# Altium integrated library Linear Technology Power Management PMIC Multifunction.IntLib: 360 symbols (part 31 of 42)
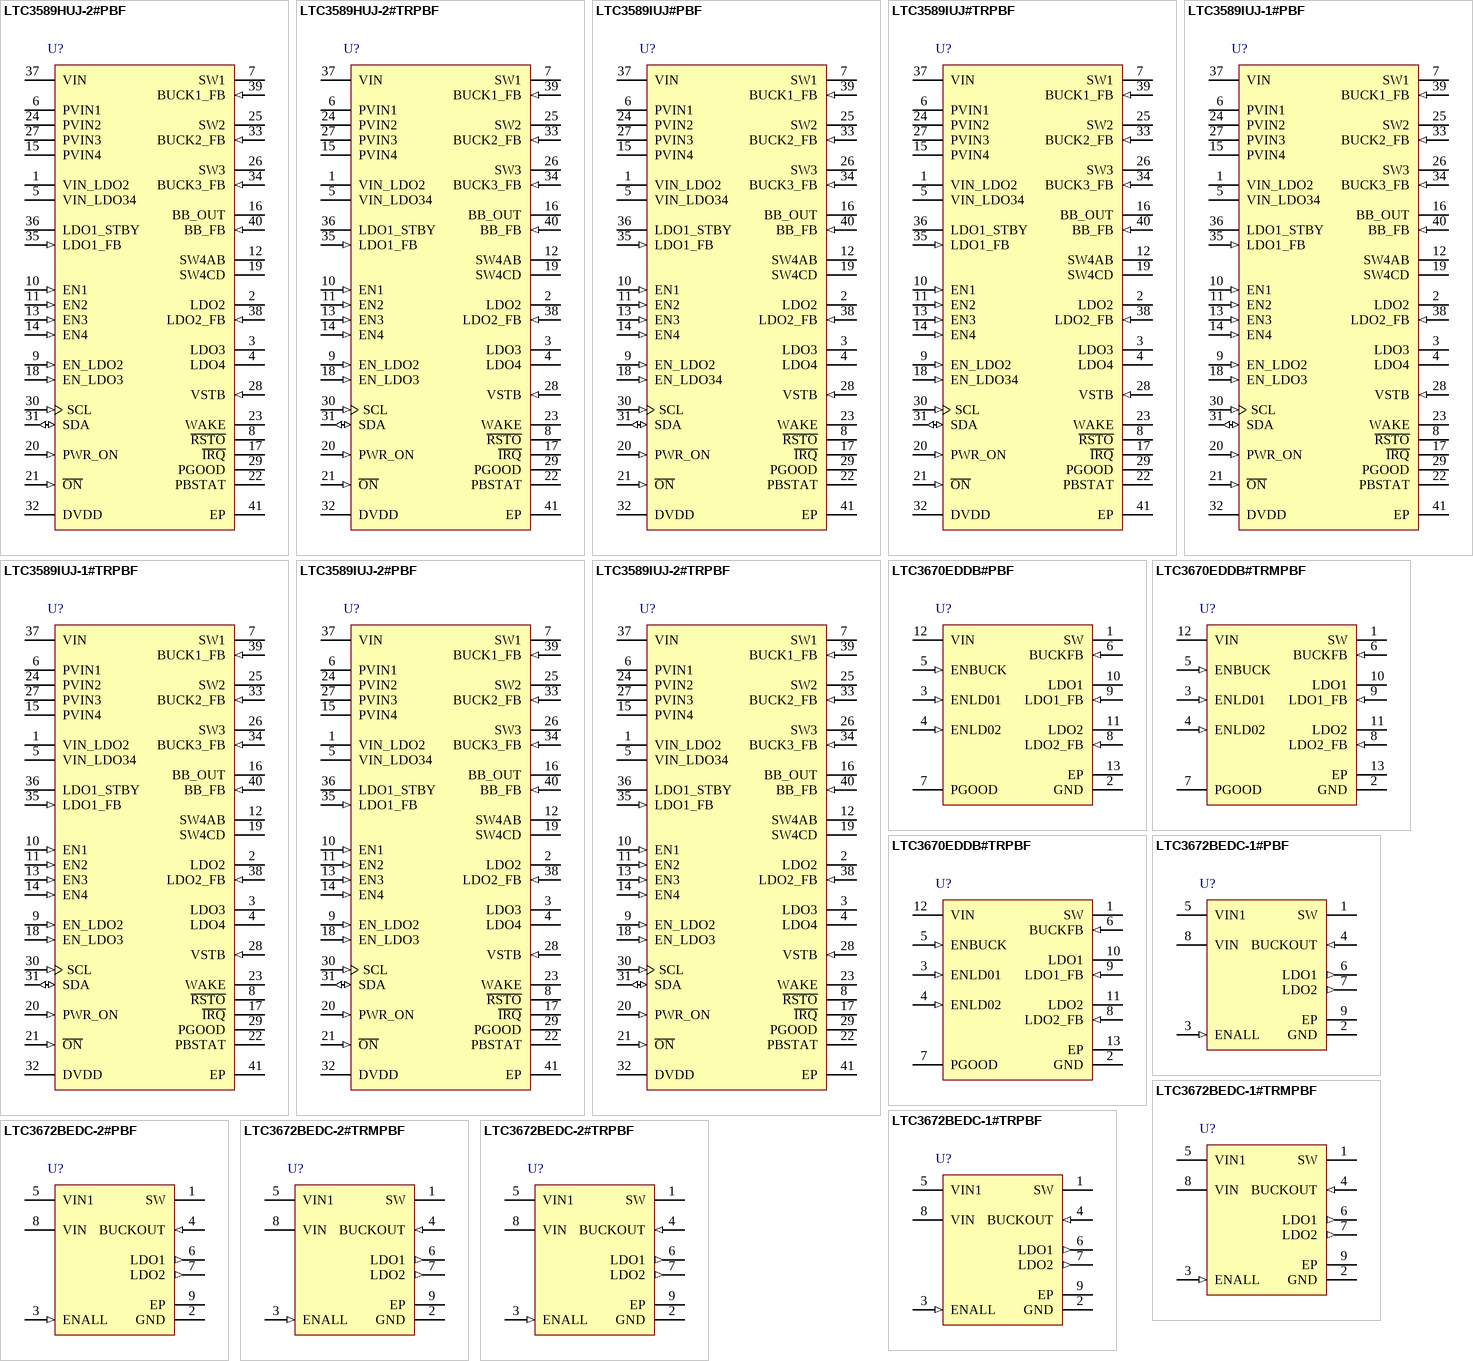
[diagram p48: symbols LTC3589HUJ-2#PBF to LTC3672BEDC-2#TRPBF]

## LTC3589IUJ-1#PBF
designator U?
8-Output Regulator with Sequencing and I2C, 2.7 to 5.5 V Vin, 40-pin QFN (UJ-40), -40 to 125 degC, Pb-Free; Manufacturer: Linear Technology; PartNumber: LTC3589IUJ-1#PBF; Number of Outputs: 8; Vin Max(V): 5.5; Vin Min(V): 2.7; DatasheetVersion: Rev. F; PackageVersion: Rev. Ø, 06/2010; PackageReference: UJ-40; PackageDescription: 40-Pin Plastic QFN, Body 6 x 6 mm, Pitch 0.5 mm; Supplier 1: Digi-Key; Supplier Part Number 1: LTC3589IUJ-1#PBF-ND; Supplier 2: Newark; Supplier Part Number 2: 59T5597; RoHS: TRUE; Mounting Technology: Surface Mount; ComponentLink1Description: Manufacturer URL; ComponentLink1URL: http://www.linear.com/; ComponentLink2Description: Datasheet; ComponentLink2URL: http://cds.linear.com/docs/en/datasheet/3589ff.pdf; ComponentLink3Description: Package Specification; ComponentLink3URL: http://cds.linear.com/docs/en/packaging/QFN_40_05-08-1728.pdf
footprint LT-UJ-40_N (QFN, 40-Leads, Body 6.1x6.1mm, Pitch 0.5mm, Thermal Pad 4.42x4.42mm, IPC Medium Density)
footprint LT-UJ-40_L (QFN, 40-Leads, Body 6.1x6.1mm, Pitch 0.5mm, Thermal Pad 4.42x4.42mm, IPC High Density)
footprint LT-UJ-40_M (QFN, 40-Leads, Body 6.1x6.1mm, Pitch 0.5mm, Thermal Pad 4.42x4.42mm, IPC Low Density)
pins: 1 VIN_LDO2 (power) "Power Input for LDO2. This pin should be bypassed to ground with a 1uF or greater ceramic capacitor", 2 LDO2 (power) "Output Voltage of LDO2. Nominal output voltage is set with a resistor feedback divider that servos to an I2C register controlled DAC reference. This pin must be bypassed to ground with a 1uF or greater ceramic capacitor", 3 LDO3 (power) "Output Voltage of LDO3. Nominal output voltage is fixed at 1.8V or 2.8V (LTC3589-1/LTC3589-2). This pin must be bypassed to ground with a 1uF or greater ceramic capacitor.", 4 LDO4 (power) "Output Voltage of LDO4. Output voltage is selected via the I2C port. This pin must be bypassed to ground with a 1uF or greater ceramic capacitor.", 5 VIN_LDO34 (power) "Power Input for LDO3 and LDO4. This pin should be bypassed to ground with a 1uF or greater ceramic capacitor.", 6 PVIN1 (power) "Power Input for Step-Down Switching Regulator 1. Tie this pin to VIN supply. This pin should be bypassed to ground with a 4.7uF or greater ceramic capacitor.", 7 SW1 (power) "Switch Pin for Step-Down Switching Regulator 1. Connect one side of step-down switching regulator 1 inductor to this pin.", 8 ~{RSTO} (oc) "Reset Output. Open-drain output pulls low when the always-on regulator LDO1 is below regulation and during a hard reset initiated by a pushbutton input.", 9 EN_LDO2 (in) "Enable LDO2 Logic Input. Active high input to enable LDO2. A weak pull-down forces EN_LDO2 low when left floating.", 10 EN1 (in) "Enable Step-Down Switching Regulator 1. Active high input to enable step-down switching regulator 1. A weak pull-down forces EN1 low when left floating.", 11 EN2 (in) "Enable Step-Down Switching Regulator 2. Active high input to enable step-down switching regulator 2. A weak pull-down forces EN2 low when left floating.", 12 SW4AB "Switch Pin for Buck-Boost Switching Regulator 4. Connected to the buck-boost internal power switches A and B. Connect an inductor between this pin and SW4CD (Pin 19).", 13 EN3 (in) "Enable Step-Down Switching Regulator 3. Active high input to enable step-down switching regulator 3. A weak pull-down forces EN3 low when left floating.", 14 EN4 (in) "Enable Buck-Boost Switching Regulator 4. Active high input to enable buck-boost switching regulator 4. A weak pull-down forces EN4 low when left floating.", 15 PVIN4 (power) "Power Input for Switching Regulator 4. Tie this pin to VIN supply. This pin should be bypassed to ground with a 4.7uF or greater ceramic capacitor.", 16 BB_OUT (power) "Output Voltage of Buck-Boost Switching Regulator 4. This pin must be bypassed to ground with a 22uF or greater ceramic capacitor.", 17 ~{IRQ} (oc) "Interrupt Request Output. Open-drain driver is pulled low for power good, undervoltage, and overtemperature warning and fault conditions. Clear I\R\Q\ by writing to the I2C CLIRQ command register", 18 EN_LDO3 (in) "LTC3589-1 Enable LDO3 Logic Input. Active high to enable LDO3. A weak pull-down forces EN_LDO3 low when left floating.", 19 SW4CD "Switch Pin for Buck-Boost Switching Regulator 4. Connected to the buck-boost internal power switches C and D. Connect an inductor between this node and SW4AB (Pin 12).", 20 PWR_ON (in) "External Power-On. Handshaking pin to acknowledge successful power-on sequence. PWR_ON must be driven high within five seconds of WAKE going high to keep power on. It can be used to activate the WAKE output by driving high. (See Datasheet)", 21 ~{ON} (in) "Pushbutton Input. A weak internal pull-up forces O\N\ high when left floating. A normally open pushbutton is connected from O\N\ to ground to force a low state on this pin.", 22 PBSTAT (oc) "Pushbutton Status. Open-drain output to be used for processor interrupts. PBSTAT mirrors the status of O\N\ pushbutton pin. PBSTAT is delayed 50ms from O\N\ pin for debounce.", 23 WAKE (oc) "System Wake Up. Open-drain driver output releases high when signaled by pushbutton activation or PWR_ON input. It may be used to initiate a pin-strapped power-up sequence by connecting to a regulator enable pin.", 24 PVIN2 (power) "Power Input for Step-Down Switching Regulator 2. Tie this pin to VIN supply. This pin should be bypassed to ground with a 4.7uF or greater ceramic capacitor.", 25 SW2 (power) "Switch Pin for Step-Down Switching Regulator 2. Connect one side of step-down switching regulator 2 inductor to this pin.", 26 SW3 (power) "Switch Pin for Step-Down Switching Regulator 3. Connect one side of step-down switching regulator 3 inductor to this pin.", 27 PVIN3 (power) "Power Input for Step-Down Switching Regulator 3. Tie this pin to the VIN supply. This pin should be bypassed to ground with a 4.7uF or greater ceramic capacitor.", 28 VSTB (in) "Voltage Standby. When VSTB is low, DAC reference registers are selected by bit values in command register VCCR. When VSTB is high, the DAC registers are forced xxDVT2 registers. Tie VSTB to ground if unused.", 29 PGOOD (oc) "Power Good Output. Open-drain output pulls down when any regulator falls below power good threshold and during regulator dynamic voltage slew unless disabled in I2C register. Pulls down when all regulators are disabled.", 30 SCL (in) "Clock Input Pin for the I2C Serial Port. The I2C logic levels are scaled with respect to DVDD.", 31 SDA (io) "Data Input Pin for the I2C Serial Port. The I2C logic levels are scaled with respect to DVDD.", 32 DVDD (power) "Supply Voltage for I2C Serial Port. This pin sets the logic reference level of SCL and SDA I2C pins. DVDD resets I2C registers to power on state when driven to <1V. SCL and SDA logic levels are scaled to DVDD. Connect a 0.(See Datasheet)", 33 BUCK2_FB (in) "Feedback Input for Step-Down Switching Regulator 2. Set full-scale output voltage using resistor divider connected from the output of step-down switching regulator 2 to this pin to ground.", 34 BUCK3_FB (in) "Feedback Input for Step-Down Switching Regulator 3. Set full-scale output voltage using resistor divider connected from the output of step-down switching regulator 3 to this pin to ground.", 35 LDO1_FB (in) "Feedback Input for LDO1. Set output voltage using a resistor divider connected from LDO1_STDBY to this pin to ground.", 36 LDO1_STBY (power) "Always-On LDO1 Output. This pin provides an always-on supply voltage useful for light loads such as a watchdog microprocessor or a real-time clock. Connect a 1uF capacitor from LDO1_STBY to ground.", 37 VIN (power) "Supply Voltage Input. This pin should be bypassed to ground with a 1uF or greater ceramic capacitor.", 38 LDO2_FB (in) "Feedback Input for LDO2. Set full-scale output voltage using a resistor divider connected from LDO2_OUT to this pin to ground.", 39 BUCK1_FB (in) "Feedback Input for Step-Down", 40 BB_FB (in) "Feedback Input for Buck-Boost Switching Regulator 4. Set the output voltage using resistor divider connected from BB_OUT to this pin to ground.", 41 EP (power) "Ground. The Exposed Pad must be connected to a continuous ground plane on the second layer of the printed circuit board by several interconnect vias directly under the LTC3589 for maximum heat transfer."

## LTC3589IUJ-1#TRPBF
designator U?
8-Output Regulator with Sequencing and I2C, 2.7 to 5.5 V Vin, 40-pin QFN (UJ-40), -40 to 125 degC, Pb-Free, Tape and Reel; Manufacturer: Linear Technology; PartNumber: LTC3589IUJ-1#TRPBF; Number of Outputs: 8; Vin Max(V): 5.5; Vin Min(V): 2.7; DatasheetVersion: Rev. F; PackageVersion: Rev. Ø, 06/2010; PackageReference: UJ-40; PackageDescription: 40-Pin Plastic QFN, Body 6 x 6 mm, Pitch 0.5 mm; Supplier 1: Digi-Key; Supplier Part Number 1: LTC3589IUJ-1#TRPBF-ND; Packing: Tape and Reel; RoHS: TRUE; Mounting Technology: Surface Mount; ComponentLink1Description: Manufacturer URL; ComponentLink1URL: http://www.linear.com/; ComponentLink2Description: Datasheet; ComponentLink2URL: http://cds.linear.com/docs/en/datasheet/3589ff.pdf; ComponentLink3Description: Package Specification; ComponentLink3URL: http://cds.linear.com/docs/en/packaging/QFN_40_05-08-1728.pdf
footprint LT-UJ-40_N (QFN, 40-Leads, Body 6.1x6.1mm, Pitch 0.5mm, Thermal Pad 4.42x4.42mm, IPC Medium Density)
footprint LT-UJ-40_L (QFN, 40-Leads, Body 6.1x6.1mm, Pitch 0.5mm, Thermal Pad 4.42x4.42mm, IPC High Density)
footprint LT-UJ-40_M (QFN, 40-Leads, Body 6.1x6.1mm, Pitch 0.5mm, Thermal Pad 4.42x4.42mm, IPC Low Density)
pins: 1 VIN_LDO2 (power) "Power Input for LDO2. This pin should be bypassed to ground with a 1uF or greater ceramic capacitor", 2 LDO2 (power) "Output Voltage of LDO2. Nominal output voltage is set with a resistor feedback divider that servos to an I2C register controlled DAC reference. This pin must be bypassed to ground with a 1uF or greater ceramic capacitor", 3 LDO3 (power) "Output Voltage of LDO3. Nominal output voltage is fixed at 1.8V or 2.8V (LTC3589-1/LTC3589-2). This pin must be bypassed to ground with a 1uF or greater ceramic capacitor.", 4 LDO4 (power) "Output Voltage of LDO4. Output voltage is selected via the I2C port. This pin must be bypassed to ground with a 1uF or greater ceramic capacitor.", 5 VIN_LDO34 (power) "Power Input for LDO3 and LDO4. This pin should be bypassed to ground with a 1uF or greater ceramic capacitor.", 6 PVIN1 (power) "Power Input for Step-Down Switching Regulator 1. Tie this pin to VIN supply. This pin should be bypassed to ground with a 4.7uF or greater ceramic capacitor.", 7 SW1 (power) "Switch Pin for Step-Down Switching Regulator 1. Connect one side of step-down switching regulator 1 inductor to this pin.", 8 ~{RSTO} (oc) "Reset Output. Open-drain output pulls low when the always-on regulator LDO1 is below regulation and during a hard reset initiated by a pushbutton input.", 9 EN_LDO2 (in) "Enable LDO2 Logic Input. Active high input to enable LDO2. A weak pull-down forces EN_LDO2 low when left floating.", 10 EN1 (in) "Enable Step-Down Switching Regulator 1. Active high input to enable step-down switching regulator 1. A weak pull-down forces EN1 low when left floating.", 11 EN2 (in) "Enable Step-Down Switching Regulator 2. Active high input to enable step-down switching regulator 2. A weak pull-down forces EN2 low when left floating.", 12 SW4AB "Switch Pin for Buck-Boost Switching Regulator 4. Connected to the buck-boost internal power switches A and B. Connect an inductor between this pin and SW4CD (Pin 19).", 13 EN3 (in) "Enable Step-Down Switching Regulator 3. Active high input to enable step-down switching regulator 3. A weak pull-down forces EN3 low when left floating.", 14 EN4 (in) "Enable Buck-Boost Switching Regulator 4. Active high input to enable buck-boost switching regulator 4. A weak pull-down forces EN4 low when left floating.", 15 PVIN4 (power) "Power Input for Switching Regulator 4. Tie this pin to VIN supply. This pin should be bypassed to ground with a 4.7uF or greater ceramic capacitor.", 16 BB_OUT (power) "Output Voltage of Buck-Boost Switching Regulator 4. This pin must be bypassed to ground with a 22uF or greater ceramic capacitor.", 17 ~{IRQ} (oc) "Interrupt Request Output. Open-drain driver is pulled low for power good, undervoltage, and overtemperature warning and fault conditions. Clear I\R\Q\ by writing to the I2C CLIRQ command register", 18 EN_LDO3 (in) "LTC3589-1 Enable LDO3 Logic Input. Active high to enable LDO3. A weak pull-down forces EN_LDO3 low when left floating.", 19 SW4CD "Switch Pin for Buck-Boost Switching Regulator 4. Connected to the buck-boost internal power switches C and D. Connect an inductor between this node and SW4AB (Pin 12).", 20 PWR_ON (in) "External Power-On. Handshaking pin to acknowledge successful power-on sequence. PWR_ON must be driven high within five seconds of WAKE going high to keep power on. It can be used to activate the WAKE output by driving high. (See Datasheet)", 21 ~{ON} (in) "Pushbutton Input. A weak internal pull-up forces O\N\ high when left floating. A normally open pushbutton is connected from O\N\ to ground to force a low state on this pin.", 22 PBSTAT (oc) "Pushbutton Status. Open-drain output to be used for processor interrupts. PBSTAT mirrors the status of O\N\ pushbutton pin. PBSTAT is delayed 50ms from O\N\ pin for debounce.", 23 WAKE (oc) "System Wake Up. Open-drain driver output releases high when signaled by pushbutton activation or PWR_ON input. It may be used to initiate a pin-strapped power-up sequence by connecting to a regulator enable pin.", 24 PVIN2 (power) "Power Input for Step-Down Switching Regulator 2. Tie this pin to VIN supply. This pin should be bypassed to ground with a 4.7uF or greater ceramic capacitor.", 25 SW2 (power) "Switch Pin for Step-Down Switching Regulator 2. Connect one side of step-down switching regulator 2 inductor to this pin.", 26 SW3 (power) "Switch Pin for Step-Down Switching Regulator 3. Connect one side of step-down switching regulator 3 inductor to this pin.", 27 PVIN3 (power) "Power Input for Step-Down Switching Regulator 3. Tie this pin to the VIN supply. This pin should be bypassed to ground with a 4.7uF or greater ceramic capacitor.", 28 VSTB (in) "Voltage Standby. When VSTB is low, DAC reference registers are selected by bit values in command register VCCR. When VSTB is high, the DAC registers are forced xxDVT2 registers. Tie VSTB to ground if unused.", 29 PGOOD (oc) "Power Good Output. Open-drain output pulls down when any regulator falls below power good threshold and during regulator dynamic voltage slew unless disabled in I2C register. Pulls down when all regulators are disabled.", 30 SCL (in) "Clock Input Pin for the I2C Serial Port. The I2C logic levels are scaled with respect to DVDD.", 31 SDA (io) "Data Input Pin for the I2C Serial Port. The I2C logic levels are scaled with respect to DVDD.", 32 DVDD (power) "Supply Voltage for I2C Serial Port. This pin sets the logic reference level of SCL and SDA I2C pins. DVDD resets I2C registers to power on state when driven to <1V. SCL and SDA logic levels are scaled to DVDD. Connect a 0.(See Datasheet)", 33 BUCK2_FB (in) "Feedback Input for Step-Down Switching Regulator 2. Set full-scale output voltage using resistor divider connected from the output of step-down switching regulator 2 to this pin to ground.", 34 BUCK3_FB (in) "Feedback Input for Step-Down Switching Regulator 3. Set full-scale output voltage using resistor divider connected from the output of step-down switching regulator 3 to this pin to ground.", 35 LDO1_FB (in) "Feedback Input for LDO1. Set output voltage using a resistor divider connected from LDO1_STDBY to this pin to ground.", 36 LDO1_STBY (power) "Always-On LDO1 Output. This pin provides an always-on supply voltage useful for light loads such as a watchdog microprocessor or a real-time clock. Connect a 1uF capacitor from LDO1_STBY to ground.", 37 VIN (power) "Supply Voltage Input. This pin should be bypassed to ground with a 1uF or greater ceramic capacitor.", 38 LDO2_FB (in) "Feedback Input for LDO2. Set full-scale output voltage using a resistor divider connected from LDO2_OUT to this pin to ground.", 39 BUCK1_FB (in) "Feedback Input for Step-Down", 40 BB_FB (in) "Feedback Input for Buck-Boost Switching Regulator 4. Set the output voltage using resistor divider connected from BB_OUT to this pin to ground.", 41 EP (power) "Ground. The Exposed Pad must be connected to a continuous ground plane on the second layer of the printed circuit board by several interconnect vias directly under the LTC3589 for maximum heat transfer."

## LTC3589IUJ-2#PBF
designator U?
8-Output Regulator with Sequencing and I2C, 2.7 to 5.5 V Vin, 40-pin QFN (UJ-40), -40 to 125 degC, Pb-Free; Manufacturer: Linear Technology; PartNumber: LTC3589IUJ-2#PBF; Number of Outputs: 8; Vin Max(V): 5.5; Vin Min(V): 2.7; DatasheetVersion: Rev. F; PackageVersion: Rev. Ø, 06/2010; PackageReference: UJ-40; PackageDescription: 40-Pin Plastic QFN, Body 6 x 6 mm, Pitch 0.5 mm; Supplier 1: Digi-Key; Supplier Part Number 1: LTC3589IUJ-2#PBF-ND; Supplier 2: Newark; Supplier Part Number 2: 94T1263; RoHS: TRUE; Mounting Technology: Surface Mount; ComponentLink1Description: Manufacturer URL; ComponentLink1URL: http://www.linear.com/; ComponentLink2Description: Datasheet; ComponentLink2URL: http://cds.linear.com/docs/en/datasheet/3589ff.pdf; ComponentLink3Description: Package Specification; ComponentLink3URL: http://cds.linear.com/docs/en/packaging/QFN_40_05-08-1728.pdf
footprint LT-UJ-40_N (QFN, 40-Leads, Body 6.1x6.1mm, Pitch 0.5mm, Thermal Pad 4.42x4.42mm, IPC Medium Density)
footprint LT-UJ-40_L (QFN, 40-Leads, Body 6.1x6.1mm, Pitch 0.5mm, Thermal Pad 4.42x4.42mm, IPC High Density)
footprint LT-UJ-40_M (QFN, 40-Leads, Body 6.1x6.1mm, Pitch 0.5mm, Thermal Pad 4.42x4.42mm, IPC Low Density)
pins: 1 VIN_LDO2 (power) "Power Input for LDO2. This pin should be bypassed to ground with a 1uF or greater ceramic capacitor", 2 LDO2 (power) "Output Voltage of LDO2. Nominal output voltage is set with a resistor feedback divider that servos to an I2C register controlled DAC reference. This pin must be bypassed to ground with a 1uF or greater ceramic capacitor", 3 LDO3 (power) "Output Voltage of LDO3. Nominal output voltage is fixed at 1.8V or 2.8V (LTC3589-1/LTC3589-2). This pin must be bypassed to ground with a 1uF or greater ceramic capacitor.", 4 LDO4 (power) "Output Voltage of LDO4. Output voltage is selected via the I2C port. This pin must be bypassed to ground with a 1uF or greater ceramic capacitor.", 5 VIN_LDO34 (power) "Power Input for LDO3 and LDO4. This pin should be bypassed to ground with a 1uF or greater ceramic capacitor.", 6 PVIN1 (power) "Power Input for Step-Down Switching Regulator 1. Tie this pin to VIN supply. This pin should be bypassed to ground with a 4.7uF or greater ceramic capacitor.", 7 SW1 (power) "Switch Pin for Step-Down Switching Regulator 1. Connect one side of step-down switching regulator 1 inductor to this pin.", 8 ~{RSTO} (oc) "Reset Output. Open-drain output pulls low when the always-on regulator LDO1 is below regulation and during a hard reset initiated by a pushbutton input.", 9 EN_LDO2 (in) "Enable LDO2 Logic Input. Active high input to enable LDO2. A weak pull-down forces EN_LDO2 low when left floating.", 10 EN1 (in) "Enable Step-Down Switching Regulator 1. Active high input to enable step-down switching regulator 1. A weak pull-down forces EN1 low when left floating.", 11 EN2 (in) "Enable Step-Down Switching Regulator 2. Active high input to enable step-down switching regulator 2. A weak pull-down forces EN2 low when left floating.", 12 SW4AB "Switch Pin for Buck-Boost Switching Regulator 4. Connected to the buck-boost internal power switches A and B. Connect an inductor between this pin and SW4CD (Pin 19).", 13 EN3 (in) "Enable Step-Down Switching Regulator 3. Active high input to enable step-down switching regulator 3. A weak pull-down forces EN3 low when left floating.", 14 EN4 (in) "Enable Buck-Boost Switching Regulator 4. Active high input to enable buck-boost switching regulator 4. A weak pull-down forces EN4 low when left floating.", 15 PVIN4 (power) "Power Input for Switching Regulator 4. Tie this pin to VIN supply. This pin should be bypassed to ground with a 4.7uF or greater ceramic capacitor.", 16 BB_OUT (power) "Output Voltage of Buck-Boost Switching Regulator 4. This pin must be bypassed to ground with a 22uF or greater ceramic capacitor.", 17 ~{IRQ} (oc) "Interrupt Request Output. Open-drain driver is pulled low for power good, undervoltage, and overtemperature warning and fault conditions. Clear I\R\Q\ by writing to the I2C CLIRQ command register", 18 EN_LDO3 (in) "LTC3589-2 Enable LDO3 Logic Input. Active high to enable LDO3. A weak pull-down forces EN_LDO3 low when left floating.", 19 SW4CD "Switch Pin for Buck-Boost Switching Regulator 4. Connected to the buck-boost internal power switches C and D. Connect an inductor between this node and SW4AB (Pin 12).", 20 PWR_ON (in) "External Power-On. Handshaking pin to acknowledge successful power-on sequence. PWR_ON must be driven high within five seconds of WAKE going high to keep power on. It can be used to activate the WAKE output by driving high. (See Datasheet)", 21 ~{ON} (in) "Pushbutton Input. A weak internal pull-up forces O\N\ high when left floating. A normally open pushbutton is connected from O\N\ to ground to force a low state on this pin.", 22 PBSTAT (oc) "Pushbutton Status. Open-drain output to be used for processor interrupts. PBSTAT mirrors the status of O\N\ pushbutton pin. PBSTAT is delayed 50ms from O\N\ pin for debounce.", 23 WAKE (oc) "System Wake Up. Open-drain driver output releases high when signaled by pushbutton activation or PWR_ON input. It may be used to initiate a pin-strapped power-up sequence by connecting to a regulator enable pin.", 24 PVIN2 (power) "Power Input for Step-Down Switching Regulator 2. Tie this pin to VIN supply. This pin should be bypassed to ground with a 4.7uF or greater ceramic capacitor.", 25 SW2 (power) "Switch Pin for Step-Down Switching Regulator 2. Connect one side of step-down switching regulator 2 inductor to this pin.", 26 SW3 (power) "Switch Pin for Step-Down Switching Regulator 3. Connect one side of step-down switching regulator 3 inductor to this pin.", 27 PVIN3 (power) "Power Input for Step-Down Switching Regulator 3. Tie this pin to the VIN supply. This pin should be bypassed to ground with a 4.7uF or greater ceramic capacitor.", 28 VSTB (in) "Voltage Standby. When VSTB is low, DAC reference registers are selected by bit values in command register VCCR. When VSTB is high, the DAC registers are forced xxDVT2 registers. Tie VSTB to ground if unused.", 29 PGOOD (oc) "Power Good Output. Open-drain output pulls down when any regulator falls below power good threshold and during regulator dynamic voltage slew unless disabled in I2C register. Pulls down when all regulators are disabled.", 30 SCL (in) "Clock Input Pin for the I2C Serial Port. The I2C logic levels are scaled with respect to DVDD.", 31 SDA (io) "Data Input Pin for the I2C Serial Port. The I2C logic levels are scaled with respect to DVDD.", 32 DVDD (power) "Supply Voltage for I2C Serial Port. This pin sets the logic reference level of SCL and SDA I2C pins. DVDD resets I2C registers to power on state when driven to <1V. SCL and SDA logic levels are scaled to DVDD. Connect a 0.(See Datasheet)", 33 BUCK2_FB (in) "Feedback Input for Step-Down Switching Regulator 2. Set full-scale output voltage using resistor divider connected from the output of step-down switching regulator 2 to this pin to ground.", 34 BUCK3_FB (in) "Feedback Input for Step-Down Switching Regulator 3. Set full-scale output voltage using resistor divider connected from the output of step-down switching regulator 3 to this pin to ground.", 35 LDO1_FB (in) "Feedback Input for LDO1. Set output voltage using a resistor divider connected from LDO1_STDBY to this pin to ground.", 36 LDO1_STBY (power) "Always-On LDO1 Output. This pin provides an always-on supply voltage useful for light loads such as a watchdog microprocessor or a real-time clock. Connect a 1uF capacitor from LDO1_STBY to ground.", 37 VIN (power) "Supply Voltage Input. This pin should be bypassed to ground with a 1uF or greater ceramic capacitor.", 38 LDO2_FB (in) "Feedback Input for LDO2. Set full-scale output voltage using a resistor divider connected from LDO2_OUT to this pin to ground.", 39 BUCK1_FB (in) "Feedback Input for Step-Down Switching Regulator 1. Set full-scale output voltage using resistor divider connected from the output of step-down switching regulator 1 to this pin to ground.", 40 BB_FB (in) "Feedback Input for Buck-Boost Switching Regulator 4. Set the output voltage using resistor divider connected from BB_OUT to this pin to ground.", 41 EP (power) "Ground. The Exposed Pad must be connected to a continuous ground plane on the second layer of the printed circuit board by several interconnect vias directly under the LTC3589 for maximum heat transfer."

## LTC3589IUJ-2#TRPBF
designator U?
8-Output Regulator with Sequencing and I2C, 2.7 to 5.5 V Vin, 40-pin QFN (UJ-40), -40 to 125 degC, Pb-Free, Tape and Reel; Manufacturer: Linear Technology; PartNumber: LTC3589IUJ-2#TRPBF; Number of Outputs: 8; Vin Max(V): 5.5; Vin Min(V): 2.7; DatasheetVersion: Rev. F; PackageVersion: Rev. Ø, 06/2010; PackageReference: UJ-40; PackageDescription: 40-Pin Plastic QFN, Body 6 x 6 mm, Pitch 0.5 mm; Supplier 1: Digi-Key; Supplier Part Number 1: LTC3589IUJ-2#TRPBF-ND; Supplier 2: Newark; Supplier Part Number 2: 94T1264; Packing: Tape and Reel; RoHS: TRUE; Mounting Technology: Surface Mount; ComponentLink1Description: Manufacturer URL; ComponentLink1URL: http://www.linear.com/; ComponentLink2Description: Datasheet; ComponentLink2URL: http://cds.linear.com/docs/en/datasheet/3589ff.pdf; ComponentLink3Description: Package Specification; ComponentLink3URL: http://cds.linear.com/docs/en/packaging/QFN_40_05-08-1728.pdf
footprint LT-UJ-40_N (QFN, 40-Leads, Body 6.1x6.1mm, Pitch 0.5mm, Thermal Pad 4.42x4.42mm, IPC Medium Density)
footprint LT-UJ-40_L (QFN, 40-Leads, Body 6.1x6.1mm, Pitch 0.5mm, Thermal Pad 4.42x4.42mm, IPC High Density)
footprint LT-UJ-40_M (QFN, 40-Leads, Body 6.1x6.1mm, Pitch 0.5mm, Thermal Pad 4.42x4.42mm, IPC Low Density)
pins: 1 VIN_LDO2 (power) "Power Input for LDO2. This pin should be bypassed to ground with a 1uF or greater ceramic capacitor", 2 LDO2 (power) "Output Voltage of LDO2. Nominal output voltage is set with a resistor feedback divider that servos to an I2C register controlled DAC reference. This pin must be bypassed to ground with a 1uF or greater ceramic capacitor", 3 LDO3 (power) "Output Voltage of LDO3. Nominal output voltage is fixed at 1.8V or 2.8V (LTC3589-1/LTC3589-2). This pin must be bypassed to ground with a 1uF or greater ceramic capacitor.", 4 LDO4 (power) "Output Voltage of LDO4. Output voltage is selected via the I2C port. This pin must be bypassed to ground with a 1uF or greater ceramic capacitor.", 5 VIN_LDO34 (power) "Power Input for LDO3 and LDO4. This pin should be bypassed to ground with a 1uF or greater ceramic capacitor.", 6 PVIN1 (power) "Power Input for Step-Down Switching Regulator 1. Tie this pin to VIN supply. This pin should be bypassed to ground with a 4.7uF or greater ceramic capacitor.", 7 SW1 (power) "Switch Pin for Step-Down Switching Regulator 1. Connect one side of step-down switching regulator 1 inductor to this pin.", 8 ~{RSTO} (oc) "Reset Output. Open-drain output pulls low when the always-on regulator LDO1 is below regulation and during a hard reset initiated by a pushbutton input.", 9 EN_LDO2 (in) "Enable LDO2 Logic Input. Active high input to enable LDO2. A weak pull-down forces EN_LDO2 low when left floating.", 10 EN1 (in) "Enable Step-Down Switching Regulator 1. Active high input to enable step-down switching regulator 1. A weak pull-down forces EN1 low when left floating.", 11 EN2 (in) "Enable Step-Down Switching Regulator 2. Active high input to enable step-down switching regulator 2. A weak pull-down forces EN2 low when left floating.", 12 SW4AB "Switch Pin for Buck-Boost Switching Regulator 4. Connected to the buck-boost internal power switches A and B. Connect an inductor between this pin and SW4CD (Pin 19).", 13 EN3 (in) "Enable Step-Down Switching Regulator 3. Active high input to enable step-down switching regulator 3. A weak pull-down forces EN3 low when left floating.", 14 EN4 (in) "Enable Buck-Boost Switching Regulator 4. Active high input to enable buck-boost switching regulator 4. A weak pull-down forces EN4 low when left floating.", 15 PVIN4 (power) "Power Input for Switching Regulator 4. Tie this pin to VIN supply. This pin should be bypassed to ground with a 4.7uF or greater ceramic capacitor.", 16 BB_OUT (power) "Output Voltage of Buck-Boost Switching Regulator 4. This pin must be bypassed to ground with a 22uF or greater ceramic capacitor.", 17 ~{IRQ} (oc) "Interrupt Request Output. Open-drain driver is pulled low for power good, undervoltage, and overtemperature warning and fault conditions. Clear I\R\Q\ by writing to the I2C CLIRQ command register", 18 EN_LDO3 (in) "LTC3589-2 Enable LDO3 Logic Input. Active high to enable LDO3. A weak pull-down forces EN_LDO3 low when left floating.", 19 SW4CD "Switch Pin for Buck-Boost Switching Regulator 4. Connected to the buck-boost internal power switches C and D. Connect an inductor between this node and SW4AB (Pin 12).", 20 PWR_ON (in) "External Power-On. Handshaking pin to acknowledge successful power-on sequence. PWR_ON must be driven high within five seconds of WAKE going high to keep power on. It can be used to activate the WAKE output by driving high. (See Datasheet)", 21 ~{ON} (in) "Pushbutton Input. A weak internal pull-up forces O\N\ high when left floating. A normally open pushbutton is connected from O\N\ to ground to force a low state on this pin.", 22 PBSTAT (oc) "Pushbutton Status. Open-drain output to be used for processor interrupts. PBSTAT mirrors the status of O\N\ pushbutton pin. PBSTAT is delayed 50ms from O\N\ pin for debounce.", 23 WAKE (oc) "System Wake Up. Open-drain driver output releases high when signaled by pushbutton activation or PWR_ON input. It may be used to initiate a pin-strapped power-up sequence by connecting to a regulator enable pin.", 24 PVIN2 (power) "Power Input for Step-Down Switching Regulator 2. Tie this pin to VIN supply. This pin should be bypassed to ground with a 4.7uF or greater ceramic capacitor.", 25 SW2 (power) "Switch Pin for Step-Down Switching Regulator 2. Connect one side of step-down switching regulator 2 inductor to this pin.", 26 SW3 (power) "Switch Pin for Step-Down Switching Regulator 3. Connect one side of step-down switching regulator 3 inductor to this pin.", 27 PVIN3 (power) "Power Input for Step-Down Switching Regulator 3. Tie this pin to the VIN supply. This pin should be bypassed to ground with a 4.7uF or greater ceramic capacitor.", 28 VSTB (in) "Voltage Standby. When VSTB is low, DAC reference registers are selected by bit values in command register VCCR. When VSTB is high, the DAC registers are forced xxDVT2 registers. Tie VSTB to ground if unused.", 29 PGOOD (oc) "Power Good Output. Open-drain output pulls down when any regulator falls below power good threshold and during regulator dynamic voltage slew unless disabled in I2C register. Pulls down when all regulators are disabled.", 30 SCL (in) "Clock Input Pin for the I2C Serial Port. The I2C logic levels are scaled with respect to DVDD.", 31 SDA (io) "Data Input Pin for the I2C Serial Port. The I2C logic levels are scaled with respect to DVDD.", 32 DVDD (power) "Supply Voltage for I2C Serial Port. This pin sets the logic reference level of SCL and SDA I2C pins. DVDD resets I2C registers to power on state when driven to <1V. SCL and SDA logic levels are scaled to DVDD. Connect a 0.(See Datasheet)", 33 BUCK2_FB (in) "Feedback Input for Step-Down Switching Regulator 2. Set full-scale output voltage using resistor divider connected from the output of step-down switching regulator 2 to this pin to ground.", 34 BUCK3_FB (in) "Feedback Input for Step-Down Switching Regulator 3. Set full-scale output voltage using resistor divider connected from the output of step-down switching regulator 3 to this pin to ground.", 35 LDO1_FB (in) "Feedback Input for LDO1. Set output voltage using a resistor divider connected from LDO1_STDBY to this pin to ground.", 36 LDO1_STBY (power) "Always-On LDO1 Output. This pin provides an always-on supply voltage useful for light loads such as a watchdog microprocessor or a real-time clock. Connect a 1uF capacitor from LDO1_STBY to ground.", 37 VIN (power) "Supply Voltage Input. This pin should be bypassed to ground with a 1uF or greater ceramic capacitor.", 38 LDO2_FB (in) "Feedback Input for LDO2. Set full-scale output voltage using a resistor divider connected from LDO2_OUT to this pin to ground.", 39 BUCK1_FB (in) "Feedback Input for Step-Down Switching Regulator 1. Set full-scale output voltage using resistor divider connected from the output of step-down switching regulator 1 to this pin to ground.", 40 BB_FB (in) "Feedback Input for Buck-Boost Switching Regulator 4. Set the output voltage using resistor divider connected from BB_OUT to this pin to ground.", 41 EP (power) "Ground. The Exposed Pad must be connected to a continuous ground plane on the second layer of the printed circuit board by several interconnect vias directly under the LTC3589 for maximum heat transfer."

## LTC3670EDDB#PBF
designator U?
Monolithic 400 mA Buck Regulator with Dual 150 mA LDOs, 2.5 to 5.5 V Vin, 12-pin SON (DDB-12), -40 to 85 degC, Pb-Free; Manufacturer: Linear Technology; PartNumber: LTC3670EDDB#PBF; Number of Outputs: 3; Vin Max(V): 5.5; Vin Min(V): 2.5; PackageVersion: Rev. Ø, 06/2010; PackageReference: DDB-12; PackageDescription: 12-Pin Plastic DFN, Body 3 x 2 mm, Pitch 0.45 mm; RoHS: TRUE; Mounting Technology: Surface Mount; ComponentLink1Description: Manufacturer URL; ComponentLink1URL: http://www.linear.com/; ComponentLink2Description: Datasheet; ComponentLink2URL: http://cds.linear.com/docs/en/datasheet/3670f.pdf; ComponentLink3Description: Package Specification; ComponentLink3URL: http://cds.linear.com/docs/en/packaging/DFN_12_05-08-1723.pdf
footprint LT-DDB-12_V (SON, 12-Leads, Body 3x2mm, Pitch 0.45mm, Thermal Pad 2.39x0.64mm)
pins: 1 SW (power) "Buck Regulator Switch Node Connection to Inductor. This pin connects to the drains of the buck regulator¡¯s main PMOS and synchronous NMOS switches.", 2 GND (power) "Ground.", 3 ENLD01 (in) "Enables the First Low Dropout Linear Regulator (LDO1) When High. This is a MOS gate input. There is an internal 4Mohm pull-down.", 4 ENLD02 (in) "Enables the Second Low Dropout Linear Regulator (LDO2) When High. This is a MOS gate input. There is an internal 4Mohm pull-down.", 5 ENBUCK (in) "Enables the Buck Converter When High. This is a MOS gate input. There is an internal 4Mohm pulldown.", 6 BUCKFB (in) "Feedback Voltage Input for the Buck Regulator. Typically, an external resistor divider feeds a fraction of the buck output voltage to this pin.", 7 PGOOD (hiz) "Power Good Open-Drain NMOS Output. The PGOOD pin goes Hi-Z when all enabled outputs are within 8% of final value.", 8 LDO2_FB (in) "Feedback Voltage Input for the Second Low Dropout Linear Regulator (LDO2). Typically, an external resistor divider feeds a fraction of the LDO2 output voltage to this pin.", 9 LDO1_FB (in) "Feedback Voltage Input for the First Low Dropout Linear Regulator (LDO1). Typically, an external resistor divider feeds a fraction of the LDO1 output voltage to this pin.", 10 LDO1 (power) "Output of the First Low Dropout Linear Regulator. This pin must be bypassed to ground with a 1uF or greater ceramic capacitor.", 11 LDO2 (power) "Output of the Second Low Dropout Linear Regulator. This pin must be bypassed to ground with a 1uF or greater ceramic capacitor.", 12 VIN (power) "Input Supply. This pin should be bypassed to ground with a 2.2uF or greater ceramic capacitor.", 13 EP (power) "Ground. This pin must be soldered to the PCB."

## LTC3670EDDB#TRMPBF
designator U?
Monolithic 400 mA Buck Regulator with Dual 150 mA LDOs, 2.5 to 5.5 V Vin, 12-pin SON (DDB-12), -40 to 85 degC, Pb-Free, Mini Tape and Reel; Manufacturer: Linear Technology; PartNumber: LTC3670EDDB#TRMPBF; Number of Outputs: 3; Vin Max(V): 5.5; Vin Min(V): 2.5; PackageVersion: Rev. Ø, 06/2010; PackageReference: DDB-12; PackageDescription: 12-Pin Plastic DFN, Body 3 x 2 mm, Pitch 0.45 mm; Supplier 1: Digi-Key; Supplier Part Number 1: LTC3670EDDB#TRMPBF-ND; Supplier 2: Newark; Supplier Part Number 2: 79M3551; Packing: Mini Tape and Reel; RoHS: TRUE; Mounting Technology: Surface Mount; ComponentLink1Description: Manufacturer URL; ComponentLink1URL: http://www.linear.com/; ComponentLink2Description: Datasheet; ComponentLink2URL: http://cds.linear.com/docs/en/datasheet/3670f.pdf; ComponentLink3Description: Package Specification; ComponentLink3URL: http://cds.linear.com/docs/en/packaging/DFN_12_05-08-1723.pdf
footprint LT-DDB-12_V (SON, 12-Leads, Body 3x2mm, Pitch 0.45mm, Thermal Pad 2.39x0.64mm)
pins: 1 SW (power) "Buck Regulator Switch Node Connection to Inductor. This pin connects to the drains of the buck regulator¡¯s main PMOS and synchronous NMOS switches.", 2 GND (power) "Ground.", 3 ENLD01 (in) "Enables the First Low Dropout Linear Regulator (LDO1) When High. This is a MOS gate input. There is an internal 4Mohm pull-down.", 4 ENLD02 (in) "Enables the Second Low Dropout Linear Regulator (LDO2) When High. This is a MOS gate input. There is an internal 4Mohm pull-down.", 5 ENBUCK (in) "Enables the Buck Converter When High. This is a MOS gate input. There is an internal 4Mohm pulldown.", 6 BUCKFB (in) "Feedback Voltage Input for the Buck Regulator. Typically, an external resistor divider feeds a fraction of the buck output voltage to this pin.", 7 PGOOD (hiz) "Power Good Open-Drain NMOS Output. The PGOOD pin goes Hi-Z when all enabled outputs are within 8% of final value.", 8 LDO2_FB (in) "Feedback Voltage Input for the Second Low Dropout Linear Regulator (LDO2). Typically, an external resistor divider feeds a fraction of the LDO2 output voltage to this pin.", 9 LDO1_FB (in) "Feedback Voltage Input for the First Low Dropout Linear Regulator (LDO1). Typically, an external resistor divider feeds a fraction of the LDO1 output voltage to this pin.", 10 LDO1 (power) "Output of the First Low Dropout Linear Regulator. This pin must be bypassed to ground with a 1uF or greater ceramic capacitor.", 11 LDO2 (power) "Output of the Second Low Dropout Linear Regulator. This pin must be bypassed to ground with a 1uF or greater ceramic capacitor.", 12 VIN (power) "Input Supply. This pin should be bypassed to ground with a 2.2uF or greater ceramic capacitor.", 13 EP (power) "Ground. This pin must be soldered to the PCB."

## LTC3670EDDB#TRPBF
designator U?
Monolithic 400 mA Buck Regulator with Dual 150 mA LDOs, 2.5 to 5.5 V Vin, 12-pin SON (DDB-12), -40 to 85 degC, Pb-Free, Tape and Reel; Manufacturer: Linear Technology; PartNumber: LTC3670EDDB#TRPBF; Number of Outputs: 3; Vin Max(V): 5.5; Vin Min(V): 2.5; PackageVersion: Rev. Ø, 06/2010; PackageReference: DDB-12; PackageDescription: 12-Pin Plastic DFN, Body 3 x 2 mm, Pitch 0.45 mm; Supplier 1: Digi-Key; Supplier Part Number 1: LTC3670EDDB#TRPBF-ND; Packing: Tape and Reel; RoHS: TRUE; Mounting Technology: Surface Mount; ComponentLink1Description: Manufacturer URL; ComponentLink1URL: http://www.linear.com/; ComponentLink2Description: Datasheet; ComponentLink2URL: http://cds.linear.com/docs/en/datasheet/3670f.pdf; ComponentLink3Description: Package Specification; ComponentLink3URL: http://cds.linear.com/docs/en/packaging/DFN_12_05-08-1723.pdf
footprint LT-DDB-12_V (SON, 12-Leads, Body 3x2mm, Pitch 0.45mm, Thermal Pad 2.39x0.64mm)
pins: 1 SW (power) "Buck Regulator Switch Node Connection to Inductor. This pin connects to the drains of the buck regulator¡¯s main PMOS and synchronous NMOS switches.", 2 GND (power) "Ground.", 3 ENLD01 (in) "Enables the First Low Dropout Linear Regulator (LDO1) When High. This is a MOS gate input. There is an internal 4Mohm pull-down.", 4 ENLD02 (in) "Enables the Second Low Dropout Linear Regulator (LDO2) When High. This is a MOS gate input. There is an internal 4Mohm pull-down.", 5 ENBUCK (in) "Enables the Buck Converter When High. This is a MOS gate input. There is an internal 4Mohm pulldown.", 6 BUCKFB (in) "Feedback Voltage Input for the Buck Regulator. Typically, an external resistor divider feeds a fraction of the buck output voltage to this pin.", 7 PGOOD (hiz) "Power Good Open-Drain NMOS Output. The PGOOD pin goes Hi-Z when all enabled outputs are within 8% of final value.", 8 LDO2_FB (in) "Feedback Voltage Input for the Second Low Dropout Linear Regulator (LDO2). Typically, an external resistor divider feeds a fraction of the LDO2 output voltage to this pin.", 9 LDO1_FB (in) "Feedback Voltage Input for the First Low Dropout Linear Regulator (LDO1). Typically, an external resistor divider feeds a fraction of the LDO1 output voltage to this pin.", 10 LDO1 (power) "Output of the First Low Dropout Linear Regulator. This pin must be bypassed to ground with a 1uF or greater ceramic capacitor.", 11 LDO2 (power) "Output of the Second Low Dropout Linear Regulator. This pin must be bypassed to ground with a 1uF or greater ceramic capacitor.", 12 VIN (power) "Input Supply. This pin should be bypassed to ground with a 2.2uF or greater ceramic capacitor.", 13 EP (power) "Ground. This pin must be soldered to the PCB."

## LTC3672BEDC-1#PBF
designator U?
Monolithic Fixed-Output 400 mA Buck Regulator with Dual 150 mA LDOs, 2.9 to 5.5 V Vin, 8-pin SON (DC8-8), -40 to 85 degC, Pb-Free; Manufacturer: Linear Technology; PartNumber: LTC3672BEDC-1#PBF; Number of Outputs: 3; Vin Max(V): 5.5; Vin Min(V): 2.9; PackageVersion: Rev. A, 06/2010; PackageReference: DC8-8; PackageDescription: 8-Pin Plastic DFN, Body 2 x 2 mm, Pitch 0.45 mm; RoHS: TRUE; Mounting Technology: Surface Mount; ComponentLink1Description: Manufacturer URL; ComponentLink1URL: http://www.linear.com/; ComponentLink2Description: Datasheet; ComponentLink2URL: http://cds.linear.com/docs/en/datasheet/3672B1f.pdf; ComponentLink3Description: Package Specification; ComponentLink3URL: http://www.linear.com/docs/en/packaging/DFN_8_05-08-1719.pdf
footprint LT-DC8-8_V (SON, 8-Leads, Body 2x2mm, Pitch 0.45mm, Thermal Pad 1.37x0.64mm)
pins: 1 SW (power) "Switch Node Connection to Inductor. This pin connects to the drains of the buck regulator's main PMOS and synchronous NMOS switches.", 2 GND (power) "Ground.", 3 ENALL (in) "Enables all three outputs when high, shuts down the IC when low. This is a MOS gate input. An internal 5.5Mohm resistor pulls this pin to ground.", 4 BUCKOUT (in) "Output Voltage Sense Connection for the Buck Regulator.", 5 VIN1 (power) "Power Input for the First Low Dropout Linear Regulator, LDO1.", 6 LDO1 (out) "Output of the First Low Dropout Linear Regulator. This pin must be bypassed to ground with a 1uF or greater ceramic capacitor.", 7 LDO2 (out) "Output of the Second Low Dropout Linear Regulator. This pin must be bypassed to ground with a 1uF or greater ceramic capacitor.", 8 VIN (power) "Input Bias Supply for the IC, and Power Input for the Buck Regulator and LDO2. This pin should be bypassed to ground with a 2.2uF or greater ceramic capacitor.", 9 EP (power) "Ground."

## LTC3672BEDC-1#TRMPBF
designator U?
Monolithic Fixed-Output 400 mA Buck Regulator with Dual 150 mA LDOs, 2.9 to 5.5 V Vin, 8-pin SON (DC8-8), -40 to 85 degC, Pb-Free, Mini Tape and Reel; Manufacturer: Linear Technology; PartNumber: LTC3672BEDC-1#TRMPBF; Number of Outputs: 3; Vin Max(V): 5.5; Vin Min(V): 2.9; PackageVersion: Rev. A, 06/2010; PackageReference: DC8-8; PackageDescription: 8-Pin Plastic DFN, Body 2 x 2 mm, Pitch 0.45 mm; Supplier 1: Digi-Key; Supplier Part Number 1: LTC3672BEDC-1#TRMPBFTR-ND; Supplier 2: Digi-Key; Supplier Part Number 2: LTC3672BEDC-1#TRMPBFCT-ND; Supplier 3: Digi-Key; Supplier Part Number 3: LTC3672BEDC-1#TRMPBFDKR-ND; Packing: Mini Tape and Reel; RoHS: TRUE; Mounting Technology: Surface Mount; ComponentLink1Description: Manufacturer URL; ComponentLink1URL: http://www.linear.com/; ComponentLink2Description: Datasheet; ComponentLink2URL: http://cds.linear.com/docs/en/datasheet/3672B1f.pdf; ComponentLink3Description: Package Specification; ComponentLink3URL: http://www.linear.com/docs/en/packaging/DFN_8_05-08-1719.pdf
footprint LT-DC8-8_V (SON, 8-Leads, Body 2x2mm, Pitch 0.45mm, Thermal Pad 1.37x0.64mm)
pins: 1 SW (power) "Switch Node Connection to Inductor. This pin connects to the drains of the buck regulator's main PMOS and synchronous NMOS switches.", 2 GND (power) "Ground.", 3 ENALL (in) "Enables all three outputs when high, shuts down the IC when low. This is a MOS gate input. An internal 5.5Mohm resistor pulls this pin to ground.", 4 BUCKOUT (in) "Output Voltage Sense Connection for the Buck Regulator.", 5 VIN1 (power) "Power Input for the First Low Dropout Linear Regulator, LDO1.", 6 LDO1 (out) "Output of the First Low Dropout Linear Regulator. This pin must be bypassed to ground with a 1uF or greater ceramic capacitor.", 7 LDO2 (out) "Output of the Second Low Dropout Linear Regulator. This pin must be bypassed to ground with a 1uF or greater ceramic capacitor.", 8 VIN (power) "Input Bias Supply for the IC, and Power Input for the Buck Regulator and LDO2. This pin should be bypassed to ground with a 2.2uF or greater ceramic capacitor.", 9 EP (power) "Ground."

## LTC3672BEDC-1#TRPBF
designator U?
Monolithic Fixed-Output 400 mA Buck Regulator with Dual 150 mA LDOs, 2.9 to 5.5 V Vin, 8-pin SON (DC8-8), -40 to 85 degC, Pb-Free, Tape and Reel; Manufacturer: Linear Technology; PartNumber: LTC3672BEDC-1#TRPBF; Number of Outputs: 3; Vin Max(V): 5.5; Vin Min(V): 2.9; PackageVersion: Rev. A, 06/2010; PackageReference: DC8-8; PackageDescription: 8-Pin Plastic DFN, Body 2 x 2 mm, Pitch 0.45 mm; Supplier 1: Digi-Key; Supplier Part Number 1: LTC3672BEDC-1#TRPBF-ND; Packing: Tape and Reel; RoHS: TRUE; Mounting Technology: Surface Mount; ComponentLink1Description: Manufacturer URL; ComponentLink1URL: http://www.linear.com/; ComponentLink2Description: Datasheet; ComponentLink2URL: http://cds.linear.com/docs/en/datasheet/3672B1f.pdf; ComponentLink3Description: Package Specification; ComponentLink3URL: http://www.linear.com/docs/en/packaging/DFN_8_05-08-1719.pdf
footprint LT-DC8-8_V (SON, 8-Leads, Body 2x2mm, Pitch 0.45mm, Thermal Pad 1.37x0.64mm)
pins: 1 SW (power) "Switch Node Connection to Inductor. This pin connects to the drains of the buck regulator's main PMOS and synchronous NMOS switches.", 2 GND (power) "Ground.", 3 ENALL (in) "Enables all three outputs when high, shuts down the IC when low. This is a MOS gate input. An internal 5.5Mohm resistor pulls this pin to ground.", 4 BUCKOUT (in) "Output Voltage Sense Connection for the Buck Regulator.", 5 VIN1 (power) "Power Input for the First Low Dropout Linear Regulator, LDO1.", 6 LDO1 (out) "Output of the First Low Dropout Linear Regulator. This pin must be bypassed to ground with a 1uF or greater ceramic capacitor.", 7 LDO2 (out) "Output of the Second Low Dropout Linear Regulator. This pin must be bypassed to ground with a 1uF or greater ceramic capacitor.", 8 VIN (power) "Input Bias Supply for the IC, and Power Input for the Buck Regulator and LDO2. This pin should be bypassed to ground with a 2.2uF or greater ceramic capacitor.", 9 EP (power) "Ground."

## LTC3672BEDC-2#PBF
designator U?
Monolithic Fixed-Output 400 mA Buck Regulator with Dual 150 mA LDOs, 2.9 to 5.5 V Vin, 8-pin SON (DC8-8), -40 to 85 degC, Pb-Free; Manufacturer: Linear Technology; PartNumber: LTC3672BEDC-2#PBF; Number of Outputs: 3; Vin Max(V): 5.5; Vin Min(V): 2.9; DatasheetVersion: Rev. A; PackageVersion: Rev. A, 06/2010; PackageReference: DC8-8; PackageDescription: 8-Pin Plastic DFN, Body 2 x 2 mm, Pitch 0.45 mm; RoHS: TRUE; Mounting Technology: Surface Mount; ComponentLink1Description: Manufacturer URL; ComponentLink1URL: http://www.linear.com/; ComponentLink2Description: Datasheet; ComponentLink2URL: http://cds.linear.com/docs/en/datasheet/3672b2fa.pdf; ComponentLink3Description: Package Specification; ComponentLink3URL: http://www.linear.com/docs/en/packaging/DFN_8_05-08-1719.pdf
footprint LT-DC8-8_V (SON, 8-Leads, Body 2x2mm, Pitch 0.45mm, Thermal Pad 1.37x0.64mm)
pins: 1 SW (power) "Switch Node Connection to Inductor. This pin connects to the drains of the buck regulator's main PMOS and synchronous NMOS switches.", 2 GND (power) "Ground.", 3 ENALL (in) "Enables all three outputs when high, shuts down the IC when low. This is a MOS gate input. An internal 5.5Mohm resistor pulls this pin to ground.", 4 BUCKOUT (in) "Output Voltage Sense Connection for the Buck Regulator.", 5 VIN1 (power) "Power Input for the First Low Dropout Linear Regulator, LDO1.", 6 LDO1 (out) "Output of the First Low Dropout Linear Regulator. This pin must be bypassed to ground with a 1uF or greater ceramic capacitor.", 7 LDO2 (out) "Output of the Second Low Dropout Linear Regulator. This pin must be bypassed to ground with a 1uF or greater ceramic capacitor.", 8 VIN (power) "Input Bias Supply for the IC, and Power Input for the Buck Regulator and LDO2. This pin should be bypassed to ground with a 2.2uF or greater ceramic capacitor.", 9 EP (power) "Ground."